# EAGLE library part HDSP0760 (library display-hp)
LED DISPLAY 1-character dot matrix
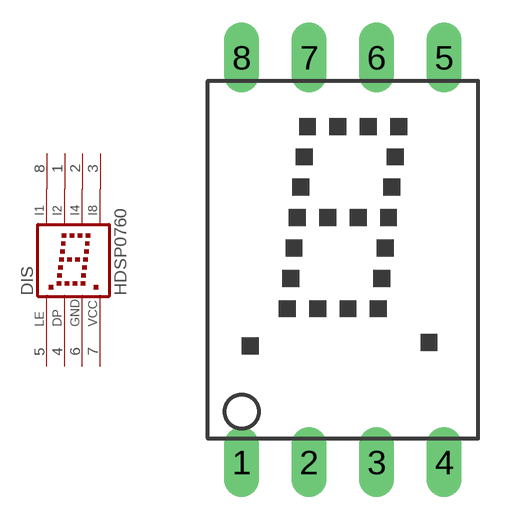
[diagram p22: symbol with the pads of HD-0760; footprint HD-0760]

Designator prefix DIS

## HDSP0760 (MF: AGILENT TECHNOLOGIES; MPN: HDSP-0760; OC_FARNELL: 9869875; OC_NEWARK: 39K9788)  [HD-0760]
1  I2  in
2  I4  in
3  I8  in
4  DP  in
5  LE  in
6  GND  pwr
7  VCC  pwr
8  I1  in

## Footprint HD-0760 (pad centres in mm)
LED DISPLAY 8-mm 1 character dot matrix, 2 decimal points
drill 0.813 long: 1 -3.81,-7.62; 2 -1.27,-7.62; 3 1.27,-7.62; 4 3.81,-7.62; 5 3.81,7.62; 6 1.27,7.62; 7 -1.27,7.62; 8 -3.81,7.62